# EAGLE library part POLOLU-2595 (library arduino_due_shield)
https://www.pololu.com/product/2595
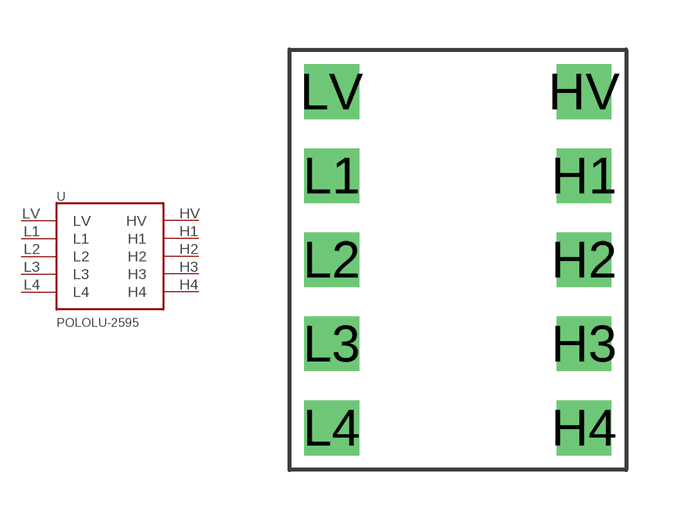
[diagram p1: symbol with the pads of POLOLU-2595-PTH; footprint POLOLU-2595-PTH]

Designator prefix -

## POLOLU-2595  [POLOLU-2595-PTH]
H1  H1
H2  H2
H3  H3
H4  H4
HV  HV
L1  L1
L2  L2
L3  L3
L4  L4
LV  LV

## Footprint POLOLU-2595-PTH (pad centres in mm)
drill 1.1 square: H1 7.62,7.62; H2 7.62,5.08; H3 7.62,2.54; H4 7.62,0; HV 7.62,10.16; L1 0,7.62; L2 0,5.08; L3 0,2.54; L4 0,0; LV 0,10.16